# Altium footprint library HDDR_7x1_0.PcbLib: 1 footprints
Each footprint in its own frame and in the unit in brackets; x right, y up, seen from the top. Pads: shape width x height; smd on the part's side, far side on the other; paste and mask are expansions set on the pad; w line width, h text height; cw(c..) or ccw(c..) is an arc to the next point about the centre after c.
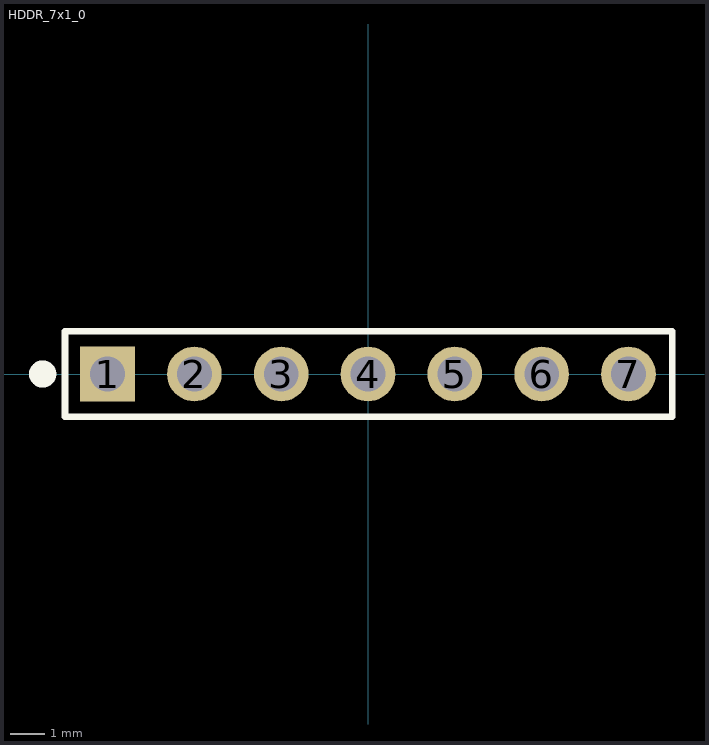
[diagram p0: the footprint, top view; thin cyan lines are the x and y axes]

## HDDR_7x1_0 [mm]
pads (7):
  rect 1.6x1.6 hole 1.016: 1(-7.62,0)
  round 1.6 hole 1.016: 2(-5.08,0) 3(-2.54,0) 4(0,0) 5(2.54,0) 6(5.08,0) 7(7.62,0)
Top Overlay:
  circle w0.4: c-9.52,0 r0.2
  lines w0.2: -8.87,-1.25 -8.87,1.25 8.9,1.25 8.9,-1.25 -8.87,-1.25
3D body "hddr_male_7x1.SLDPRT": height 8.54, standoff -3, extent -8.89,-1.27 8.89,1.27